# EAGLE library part EMI_SHIELD (library Laird Technologies)
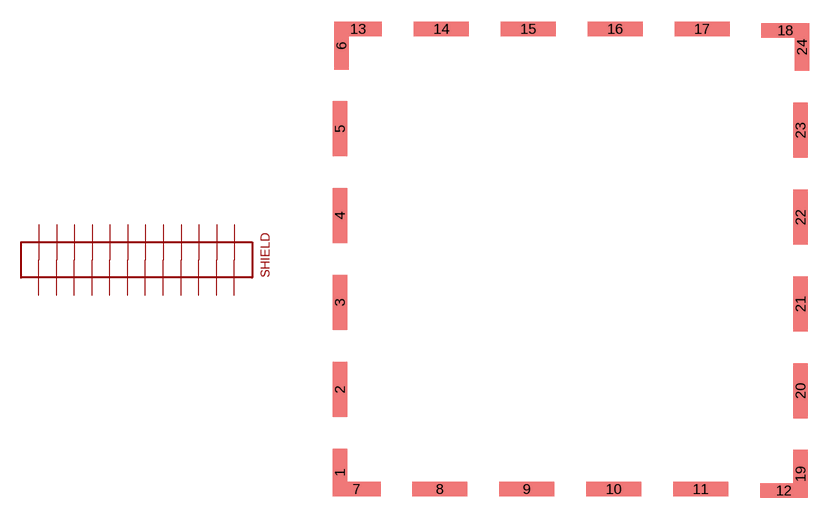
[diagram p0: symbol with the pads of BMI-S-104; footprint BMI-S-104]

Designator prefix -

## EMI_SHIELDBMI-S-104  [BMI-S-104]
1  P$1
2  P$2
3  P$3
4  P$4
5  P$5
6  P$6
7  P$7
8  P$8
9  P$9
10  P$10
11  P$11
12  P$12
13  P$13
14  P$14
15  P$15
16  P$16
17  P$17
18  P$18
19  P$19
20  P$20
21  P$21
22  P$22
23  P$23
24  P$24

## Footprint BMI-S-104 (pad centres in mm)
RF/EMI SHIELD, 1.26x1.26 http://www.abracon.com/Magnetics/chips/AIAC-1812.pdf
smd 1 x 3.3: 1 -15.5,-14.35; 6 -15.4,15.15; 19 16.3,-14.45; 24 16.4,15.05
smd 1 x 3.8: 2 -15.5,-8.6; 3 -15.5,-2.6; 4 -15.5,3.4; 5 -15.5,9.4; 20 16.3,-8.7; 21 16.3,-2.7; 22 16.3,3.3; 23 16.3,9.3
smd 3.3 x 1: 7 -14.35,-15.5; 12 15.15,-15.6; 13 -14.25,16.3; 18 15.25,16.2
smd 3.8 x 1: 8 -8.6,-15.5; 9 -2.6,-15.5; 10 3.4,-15.5; 11 9.4,-15.5; 14 -8.5,16.3; 15 -2.5,16.3; 16 3.5,16.3; 17 9.5,16.3